# EAGLE library part NHD-0420H1Z (library jack_specialty)
NHD-0420H1Z-FL-GBW-33V3
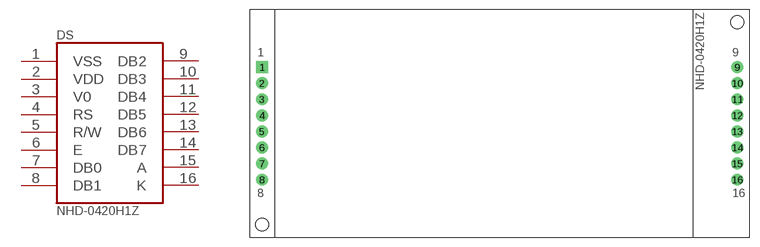
[diagram p1: symbol with the pads of NHD-0420H1Z; footprint NHD-0420H1Z]

Designator prefix DS

## NHD-0420H1Z  [NHD-0420H1Z]
1  VSS
2  VDD
3  V0
4  RS
5  R/W
6  E
7  DB0
8  DB1
9  DB2
10  DB3
11  DB4
12  DB5
13  DB6
14  DB7
15  A
16  K

## Footprint NHD-0420H1Z (pad centres in mm)
drill 1.016 pad 1.88 square: 1 2,26.89
drill 1.016 pad 1.88: 2 2,24.35; 3 2,21.81; 4 2,19.27; 5 2,16.73; 6 2,14.19; 7 2,11.65; 8 2,9.11; 9 77,26.89; 10 77,24.35; 11 77,21.81; 12 77,19.27; 13 77,16.73; 14 77,14.19; 15 77,11.65; 16 77,9.11
hole 2 at 2,2
hole 2 at 77,34